# EAGLE library part BLUEFRUIT-SPI (library relay-components)
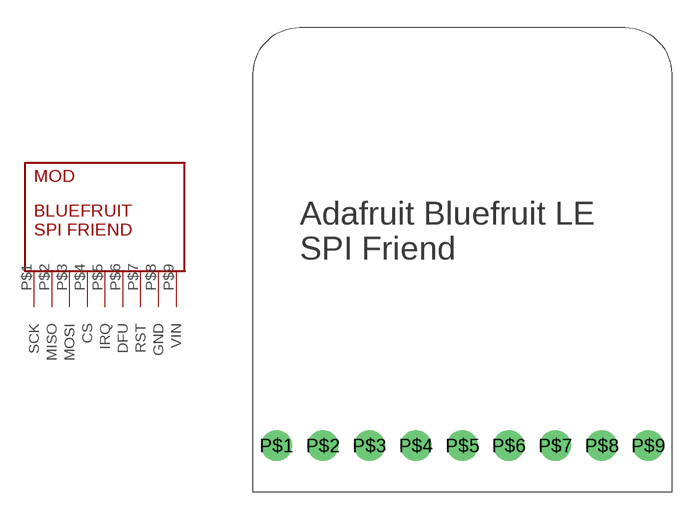
[diagram p2: symbol with the pads of BLUEFRUIT-SPI; footprint BLUEFRUIT-SPI]

Designator prefix MOD

## BLUEFRUIT-SPI  [BLUEFRUIT-SPI]
P$1  SCK
P$2  MISO
P$3  MOSI
P$4  CS
P$5  IRQ
P$6  DFU
P$7  RST
P$8  GND
P$9  VIN

## Footprint BLUEFRUIT-SPI (pad centres in mm)
drill 1 pad 1.676: P$1 1.27,2.54; P$2 3.81,2.54; P$3 6.35,2.54; P$4 8.89,2.54; P$5 11.43,2.54; P$6 13.97,2.54; P$7 16.51,2.54; P$8 19.05,2.54; P$9 21.59,2.54